# Altium integrated library IC.IntLib: 5 symbols
Pins are listed as number, name and electrical type; pins without a type are passive.

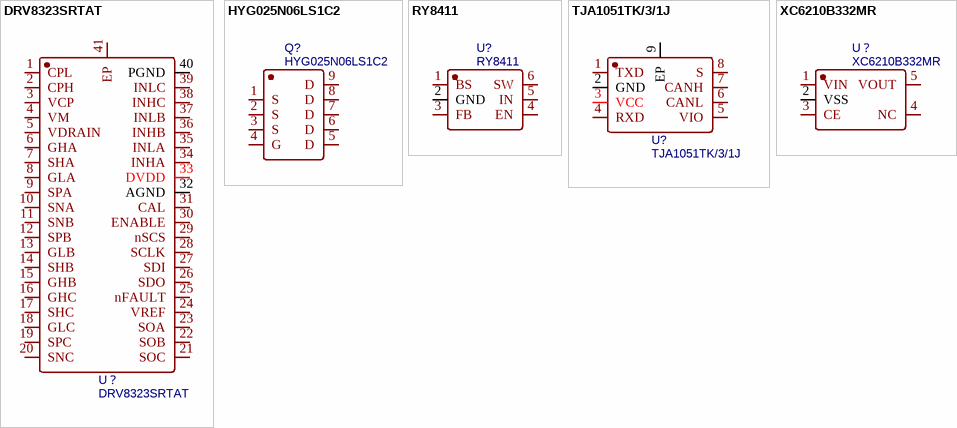
[diagram p0: symbols DRV8323SRTAT to XC6210B332MR]

## DRV8323SRTAT
designator U？
BOM_Manufacturer: TI(德州仪器); Contributor: LCSC; BOM_Supplier: LCSC; BOM_Supplier Part: C2150452; BOM_Manufacturer Part: DRV8323SRTAT; spicePre: U; spiceSymbolName: DRV8323SRTAT
footprint WQFN-40_L6.0-W6.0-P0.50-TL-EP4.5
pins: 1 CPL, 2 CPH, 3 VCP, 4 VM, 5 VDRAIN, 6 GHA, 7 SHA, 8 GLA, 9 SPA, 10 SNA, 11 SNB, 12 SPB, 13 GLB, 14 SHB, 15 GHB, 16 GHC, 17 SHC, 18 GLC, 19 SPC, 20 SNC, 21 SOC, 22 SOB, 23 SOA, 24 VREF, 25 nFAULT, 26 SDO, 27 SDI, 28 SCLK, 29 nSCS, 30 ENABLE, 31 CAL, 32 AGND, 33 DVDD, 34 INHA, 35 INLA, 36 INHB, 37 INLB, 38 INHC, 39 INLC, 40 PGND, 41 EP

## HYG025N06LS1C2
designator Q?
BOM_Manufacturer: HUAYI(华羿微); Contributor: LCSC; BOM_Supplier: LCSC; BOM_Supplier Part: C2827231; BOM_Manufacturer Part: HYG025N06LS1C2; BOM_JLCPCB Part Class: Extended Part; spicePre: Q; spiceSymbolName: HYG025N06LS1C2
footprint DFN-8_L5.9-W5.2-P1.27-LS6.2-BL
pins: 1 S, 2 S, 3 S, 4 G, 5 D, 6 D, 7 D, 8 D, 9 D

## RY8411
designator U?
BOM_Manufacturer: RYCHiP(蕊源); Contributor: LCSC; BOM_Supplier: LCSC; BOM_Supplier Part: C2935411; BOM_Manufacturer Part: RY8411; BOM_JLCPCB Part Class: Extended Part; spicePre: U; spiceSymbolName: RY8411_C2935411
footprint SOT-23-6_L2.9-W1.6-P0.95-LS2.8-TL
pins: 1 BS, 2 GND, 3 FB, 4 EN, 5 IN, 6 SW

## TJA1051TK/3/1J
designator U?
BOM_Manufacturer: NXP(恩智浦); Contributor: LCSC; BOM_Supplier: LCSC; BOM_Supplier Part: C2875699; BOM_Manufacturer Part: TJA1051TK/3/1J; BOM_JLCPCB Part Class: Extended Part; spicePre: U; spiceSymbolName: TJA1051TK/3/1J
footprint HVSON-8_L3.0-W3.0-P0.65-BL-EP
pins: 1 TXD, 2 GND, 3 VCC, 4 RXD, 5 VIO, 6 CANL, 7 CANH, 8 S, 9 EP

## XC6210B332MR
designator U？
BOM_Manufacturer: Torex Semicon; Contributor: LCSC; BOM_Supplier: LCSC; BOM_Supplier Part: C424705; BOM_Manufacturer Part: XC6210B332MR; BOM_JLCPCB Part Class: Extended Part; spicePre: U; spiceSymbolName: XC6210B332MR_C424705
footprint SOT-25_L3.0-W1.6-P0.95-LS2.8-BL
pins: 1 VIN, 2 VSS, 3 CE, 4 NC, 5 VOUT